# Altium schematic symbol library ESP32_S3_Kit.SchLib: 1 symbol
Pins are listed as number, name and electrical type; pins without a type are passive.

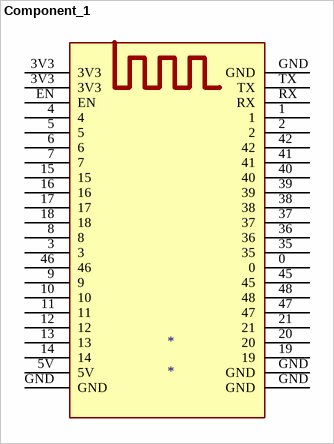
[diagram p0: symbol Component_1]

## Component_1
designator *
footprint PCBComponent_1
pins: 0, 1, 2, 3, 3V3, 3V3, 4, 5, 5V, 6, 7, 8, 9, 10, 11, 12, 13, 14, 15, 16, 17, 18, 19, 20, 21, 35, 36, 37, 38, 39, 40, 41, 42, 45, 46, 47, 48, EN, GND, GND, GND, GND, RX, TX